# Altium schematic symbol library LTC6811-1.SchLib: 1 symbol
Pins are listed as number, name and electrical type; pins without a type are passive.

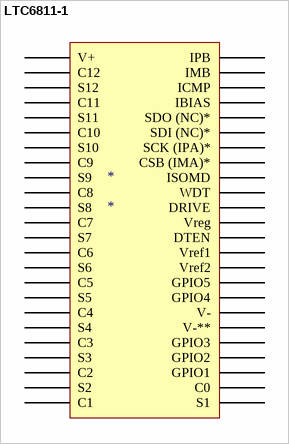
[diagram p0: symbol LTC6811-1]

## LTC6811-1
designator *
footprint SOP48P50_1280X780X200L75X25N (Small Outline Pkg (SOP), 0.50 mm pitch; 48 pin, 12.80 mm L X 5.30 mm W X 2.00 mm H body)
pins: 1 V+ (power), 2 C12, 3 S12, 4 C11, 5 S11, 6 C10, 7 S10, 8 C9, 9 S9, 10 C8, 11 S8, 12 C7, 13 S7, 14 C6, 15 S6, 16 C5, 17 S5, 18 C4, 19 S4, 20 C3, 21 S3, 22 C2, 23 S2, 24 C1, 25 S1, 26 C0, 27 GPIO1, 28 GPIO2, 29 GPIO3, 30 V-**, 31 V-, 32 GPIO4, 33 GPIO5, 34 Vref2, 35 Vref1, 36 DTEN, 37 Vreg, 38 DRIVE, 39 WDT, 40 ISOMD, 41 CSB (IMA)*, 42 SCK (IPA)*, 43 SDI (NC)*, 44 SDO (NC)*, 45 IBIAS, 46 ICMP, 47 IMB, 48 IPB